# Altium schematic symbol library MP9486AGN-Z.SchLib: 1 symbol
Pins are listed as number, name and electrical type; pins without a type are passive.

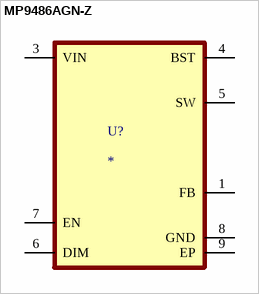
[diagram p0: symbol MP9486AGN-Z]

## MP9486AGN-Z
designator U?
footprint MP9486AGN-Z
pins: 1 FB, 3 VIN, 4 BST, 5 SW, 6 DIM, 7 EN, 8 GND, 9 EP